# Altium schematic symbol library CAT6219-330TDGT3.SchLib: 1 symbol
Pins are listed as number, name and electrical type; pins without a type are passive.

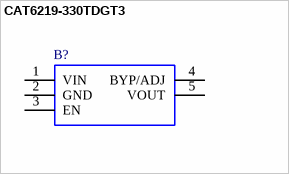
[diagram p0: symbol CAT6219-330TDGT3]

## CAT6219-330TDGT3
designator B?
Manufacturer_Name: onsemi; Geometry.Height: 1mm; Mouser Part Number: 698-CAT6219-330TD-G; Mouser Price/Stock: https://www.mouser.co.uk/ProductDetail/onsemi/CAT6219-330TDGT3?qs=NSpYCGcNYB%2Ft6t1eUPgO2g%3D%3D; Manufacturer_Part_Number: CAT6219-330TDGT3; Description: *; Datasheet Link: http://www.onsemi.com/pub/Collateral/CAT6219-D.PDF
footprint SOT95P280X100-5N
pins: 1 VIN, 2 GND, 3 EN, 4 BYP/ADJ, 5 VOUT